# EAGLE library part JST_SH_6 (library .connector)
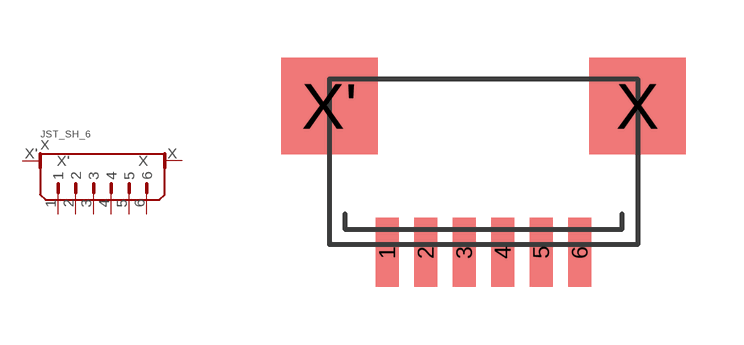
[diagram p0: symbol with the pads of JST_SH_6; footprint JST_SH_6]

Designator prefix X

## JST_SH_6LIEGEND  [JST_SH_6]
1  1
2  2
3  3
4  4
5  5
6  6
X  X
X'  X'

## Footprint JST_SH_6 (pad centres in mm)
smd 0.6 x 1.8: 1 -2.5,-2.2; 2 -1.5,-2.2; 3 -0.5,-2.2; 4 0.5,-2.2; 5 1.5,-2.2; 6 2.5,-2.2
smd 2.5 x 2.5: X 4,1.6; X' -4,1.6